# Altium footprint library calm.PcbLib: 1 footprints
Each footprint in its own frame and in the unit in brackets; x right, y up, seen from the top. Pads: shape width x height; smd on the part's side, far side on the other; paste and mask are expansions set on the pad; w line width, h text height; cw(c..) or ccw(c..) is an arc to the next point about the centre after c.
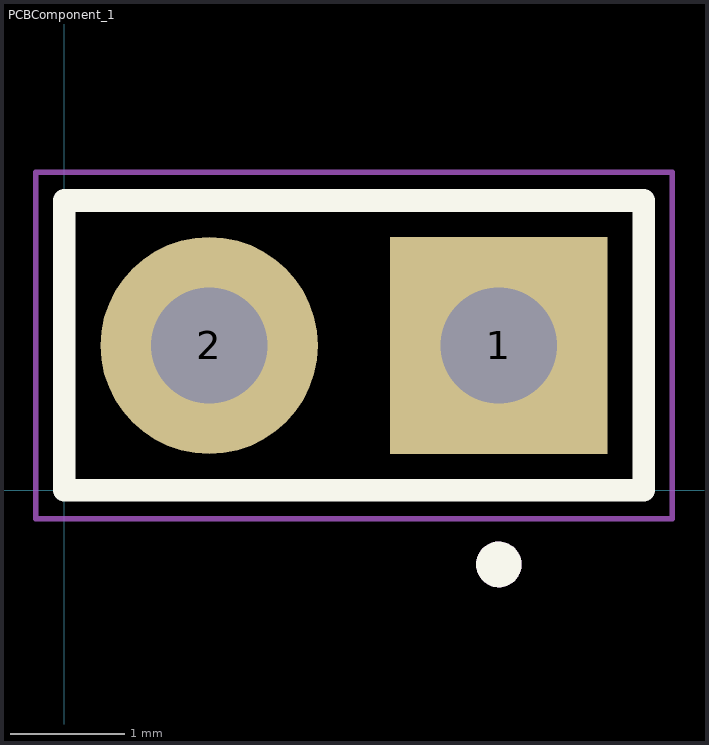
[diagram p0: the footprint, top view; thin cyan lines are the x and y axes]

## PCBComponent_1 [mm]
pads (2):
  rect 1.905x1.905 hole 1.02: 1(3.81,1.27)
  round 1.905 hole 1.02: 2(1.27,1.27)
Top Overlay:
  circle w0.2: c3.81,-0.65 r0.1
  lines w0.2: 0,0 0,2.54 5.08,2.54 5.08,0 0,0
Mechanical 13:
  circle w0.2: c3.81,-0.65 r0.1
  lines w0.1: 0,0 0,2.54 5.08,2.54 5.08,0 0,0
Mechanical 15:
  lines w0.05: -0.25,-0.25 -0.25,2.79 5.33,2.79 5.33,-0.25 -0.25,-0.25